# Altium schematic symbol library roket2023.SchLib: 28 symbols
Pins are listed as number, name and electrical type; pins without a type are passive.

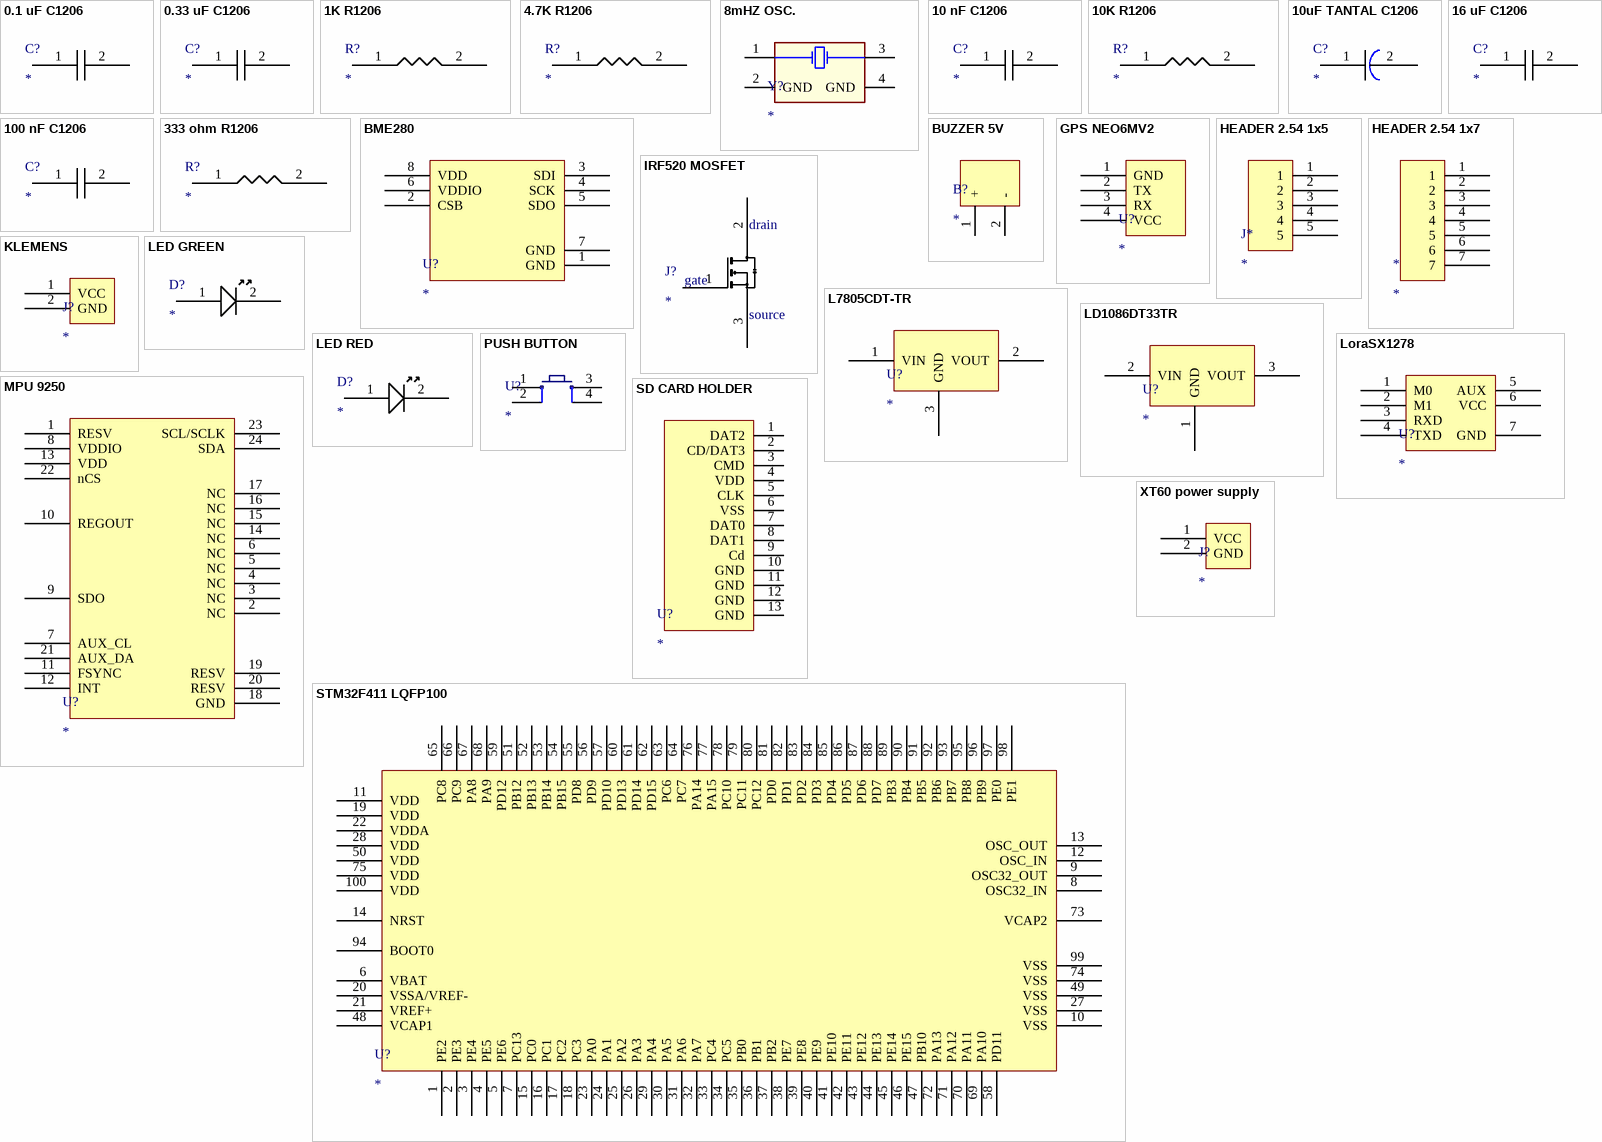
[diagram p0: symbols 0.1 uF C1206 to XT60 power supply]

## 0.1 uF C1206
designator C?
footprint C1206
pins: 1, 2

## 0.33 uF C1206
designator C?
footprint C1206
pins: 1, 2

## 1K R1206
designator R?
footprint R1206
pins: 1, 2

## 4.7K R1206
designator R?
footprint R1206
pins: 1, 2

## 8mHZ OSC.
designator Y?
osilator
footprint 8Mhz OSC
pins: 1 (power) "Regulator Input Supply. Bypass IN to GND with a 1 uF or greater capacitor.", 2 GND (power) "Ground.", 3 "Enable Input. Drive EN high to turn on the regulator; drive it low to turn off the regulator. For automatic startup, connect EN to IN.", 4 GND "Connect a 1 nF or greater capacitor (10 nF is recommended) between BYP and GND to reduce the internal reference noise for low noise applications."

## 10 nF C1206
designator C?
footprint C1206
pins: 1, 2

## 10K R1206
designator R?
footprint R1206
pins: 1, 2

## 10uF TANTAL C1206
designator C?
tantal
footprint C1206 Tantal
pins: 1, 2

## 16 uF C1206
designator C?
footprint C1206
pins: 1, 2

## 100 nF C1206
designator C?
footprint C1206
pins: 1, 2

## 333 ohm R1206
designator R?
footprint R1206
pins: 1, 2

## BME280
designator U?
pressure sensor
footprint BME280
pins: 1 GND, 2 CSB, 3 SDI, 4 SCK, 5 SDO, 6 VDDIO, 7 GND, 8 VDD

## BUZZER 5V
designator B?
buzzer
footprint BUZZER
pins: 1 +, 2 -

## GPS NEO6MV2
designator U?
pins: 1 GND, 2 TX, 3 RX, 4 VCC

## HEADER 2.54 1x5
designator J*
footprint HEADER 2.54 1x5
pins: 1, 2, 3, 4, 5

## HEADER 2.54 1x7
designator *
pins: 1, 2, 3, 4, 5, 6, 7

## IRF520 MOSFET
designator J?
footprint IRF520 Mosfet (anahtarlama)
pins: 1 GATE, 2 DRAİN, 3 SOURCE
text: drain; gate; source

## KLEMENS
designator J?
footprint KLEMENS
pins: 1 VCC, 2 GND

## L7805CDT-TR
designator U?
5V DPAK regulatör
footprint L7805CDT-TR DPAK
pins: 1 VIN, 2 VOUT, 3 GND

## LD1086DT33TR
designator U?
3.3v dpak regulator
footprint L7805CDT-TR DPAK
pins: 1 GND, 2 VIN, 3 VOUT

## LED GREEN
designator D?
footprint LED D1206
pins: 1, 2

## LED RED
designator D?
footprint LED D1206
pins: 1, 2

## LoraSX1278
designator U?
footprint Lora SX1278
pins: 1 M0, 2 M1, 3 RXD, 4 TXD, 5 AUX, 6 VCC, 7 GND

## MPU 9250
designator U?
gyro
footprint MPU9250
pins: 1 RESV, 2 NC, 3 NC, 4 NC, 5 NC, 6 NC, 7 AUX_CL, 8 VDDIO, 9 SDO, 10 REGOUT, 11 FSYNC, 12 INT, 13 VDD, 14 NC, 15 NC, 16 NC, 17 NC, 18 GND, 19 RESV, 20 RESV, 21 AUX_DA, 22 nCS, 23 SCL/SCLK, 24 SDA

## PUSH BUTTON
designator U?
footprint SMD PUSH BUTTON
pins: 1, 2, 3, 4

## SD CARD HOLDER
designator U?
sd card holder
footprint SD CARD HOLDER
pins: 1 DAT2, 2 CD/DAT3, 3 CMD, 4 VDD, 5 CLK, 6 VSS, 7 DAT0, 8 DAT1, 9 Cd, 10 GND, 11 GND, 12 GND, 13 GND

## STM32F411 LQFP100
designator U?
stm32f411
footprint STM32F411 (stm32f411)
pins: 1 PE2, 2 PE3, 3 PE4, 4 PE5, 5 PE6, 6 VBAT, 7 PC13, 8 OSC32_IN, 9 OSC32_OUT, 10 VSS, 11 VDD, 12 OSC_IN, 13 OSC_OUT, 14 NRST, 15 PC0, 16 PC1, 17 PC2, 18 PC3, 19 VDD, 20 VSSA/VREF-, 21 VREF+, 22 VDDA, 23 PA0, 24 PA1, 25 PA2, 26 PA3, 27 VSS, 28 VDD, 29 PA4, 30 PA5, 31 PA6, 32 PA7, 33 PC4, 34 PC5, 35 PB0, 36 PB1, 37 PB2, 38 PE7, 39 PE8, 40 PE9, 41 PE10, 42 PE11, 43 PE12, 44 PE13, 45 PE14, 46 PE15, 47 PB10, 48 VCAP1, 49 VSS, 50 VDD, 51 PB12, 52 PB13, 53 PB14, 54 PB15, 55 PD8, 56 PD9, 57 PD10, 58 PD11, 59 PD12, 60 PD13, 61 PD14, 62 PD15, 63 PC6, 64 PC7, 65 PC8, 66 PC9, 67 PA8, 68 PA9, 69 PA10, 70 PA11, 71 PA12, 72 PA13, 73 VCAP2, 74 VSS, 75 VDD, 76 PA14, 77 PA15, 78 PC10, 79 PC11, 80 PC12, 81 PD0, 82 PD1, 83 PD2, 84 PD3, 85 PD4, 86 PD5, 87 PD6, 88 PD7, 89 PB3, 90 PB4, 91 PB5, 92 PB6, 93 PB7, 94 BOOT0, 95 PB8, 96 PB9, 97 PE0, 98 PE1, 99 VSS, 100 VDD

## XT60 power supply
designator J?
footprint XT60 power supply
pins: 1 VCC, 2 GND